# Altium footprint library PcbLib1.PcbLib: 19 footprints (part 2 of 2)
Each footprint in its own frame and in the unit in brackets; x right, y up, seen from the top. Pads: shape width x height; smd on the part's side, far side on the other; paste and mask are expansions set on the pad; w line width, h text height; cw(c..) or ccw(c..) is an arc to the next point about the centre after c.
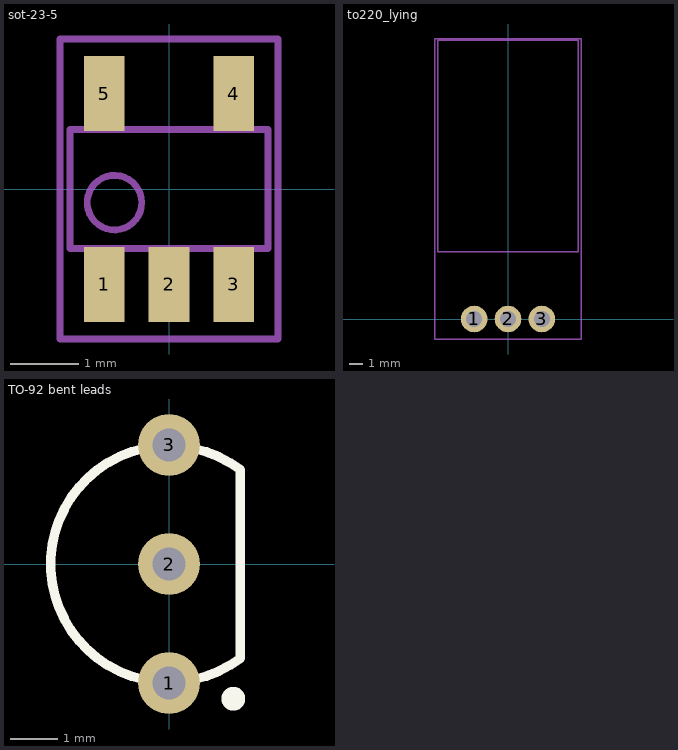
[diagram p1: the footprints below, top view; thin cyan lines are the x and y axes]

## sot-23-5 [mm]
pads (5):
  rect 0.6x1.1 smd: 1(-0.95,-1.4) 2(0,-1.4) 3(0.95,-1.4) 4(0.95,1.4) 5(-0.95,1.4)
Mechanical 1:
  circle w0.1: c-0.8,-0.2 r0.4
  lines w0.102: -1.45,-0.875 1.45,-0.875 1.45,0.875 -1.45,0.875 -1.45,-0.875
Mechanical 15:
  lines w0.102: -1.6,-2.2 -1.6,2.2 1.6,2.2 1.6,-2.2 -1.6,-2.2
3D body: height 1, standoff 0, extent -1.45,-0.875 1.45,0.875

## to220_lying [mm]
pads (3):
  round 2 hole 1.2: 1(-2.54,0) 2(0,0) 3(2.54,0)
Mechanical 1:
  lines w0.102: -5.26,5.04 5.26,5.04 5.26,20.89 -5.26,20.89 -5.26,5.04
Mechanical 15:
  lines w0.102: -5.5,-1.5 -5.5,21 5.5,21 5.5,-1.5 -5.5,-1.5

## TO-92 bent leads [mm] "TO, Flat Index; 3 In-Line, Axial Leads; Body Dia. 4.5mm; Leads 0.51 x 0.48 mm (max)"
height 6.86
pads (3):
  round 1.3 hole 0.7: 1(0,-2.5) 2(0,0) 3(0,2.5)
Top Overlay:
  circle w0.25: c1.35,-2.83 r0.125
  lines w0.2: 1.5,-1.98 cw(c0,0) 1.5,1.98 1.5,-1.98
Mechanical 13:
  lines w0.1: 1.5,-1.98 cw(c0,0) 1.5,1.98 1.5,-1.98
Mechanical 15:
  lines w0.1: -0.5,0 0.5,0 ; 0,-0.5 0,0.5
3D body: height 6.86, standoff 2.2, extent -2.485,-2.495 1.501,2.495